# Altium schematic symbol library OPA604APG4.SchLib: 1 symbol
Pins are listed as number, name and electrical type; pins without a type are passive.

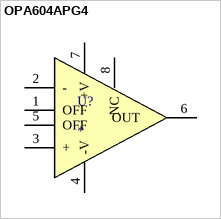
[diagram p0: symbol OPA604APG4]

## OPA604APG4
designator U?
pins: 1 OFF, 2 -, 3 +, 4 -V, 5 OFF, 6 OUT     , 7 +V, 8 NC